# Altium footprint library COOLCONTROL.PcbLib: 95 footprints (part 1 of 6)
Each footprint in its own frame and in the unit in brackets; x right, y up, seen from the top. Pads: shape width x height; smd on the part's side, far side on the other; paste and mask are expansions set on the pad; w line width, h text height; cw(c..) or ccw(c..) is an arc to the next point about the centre after c.
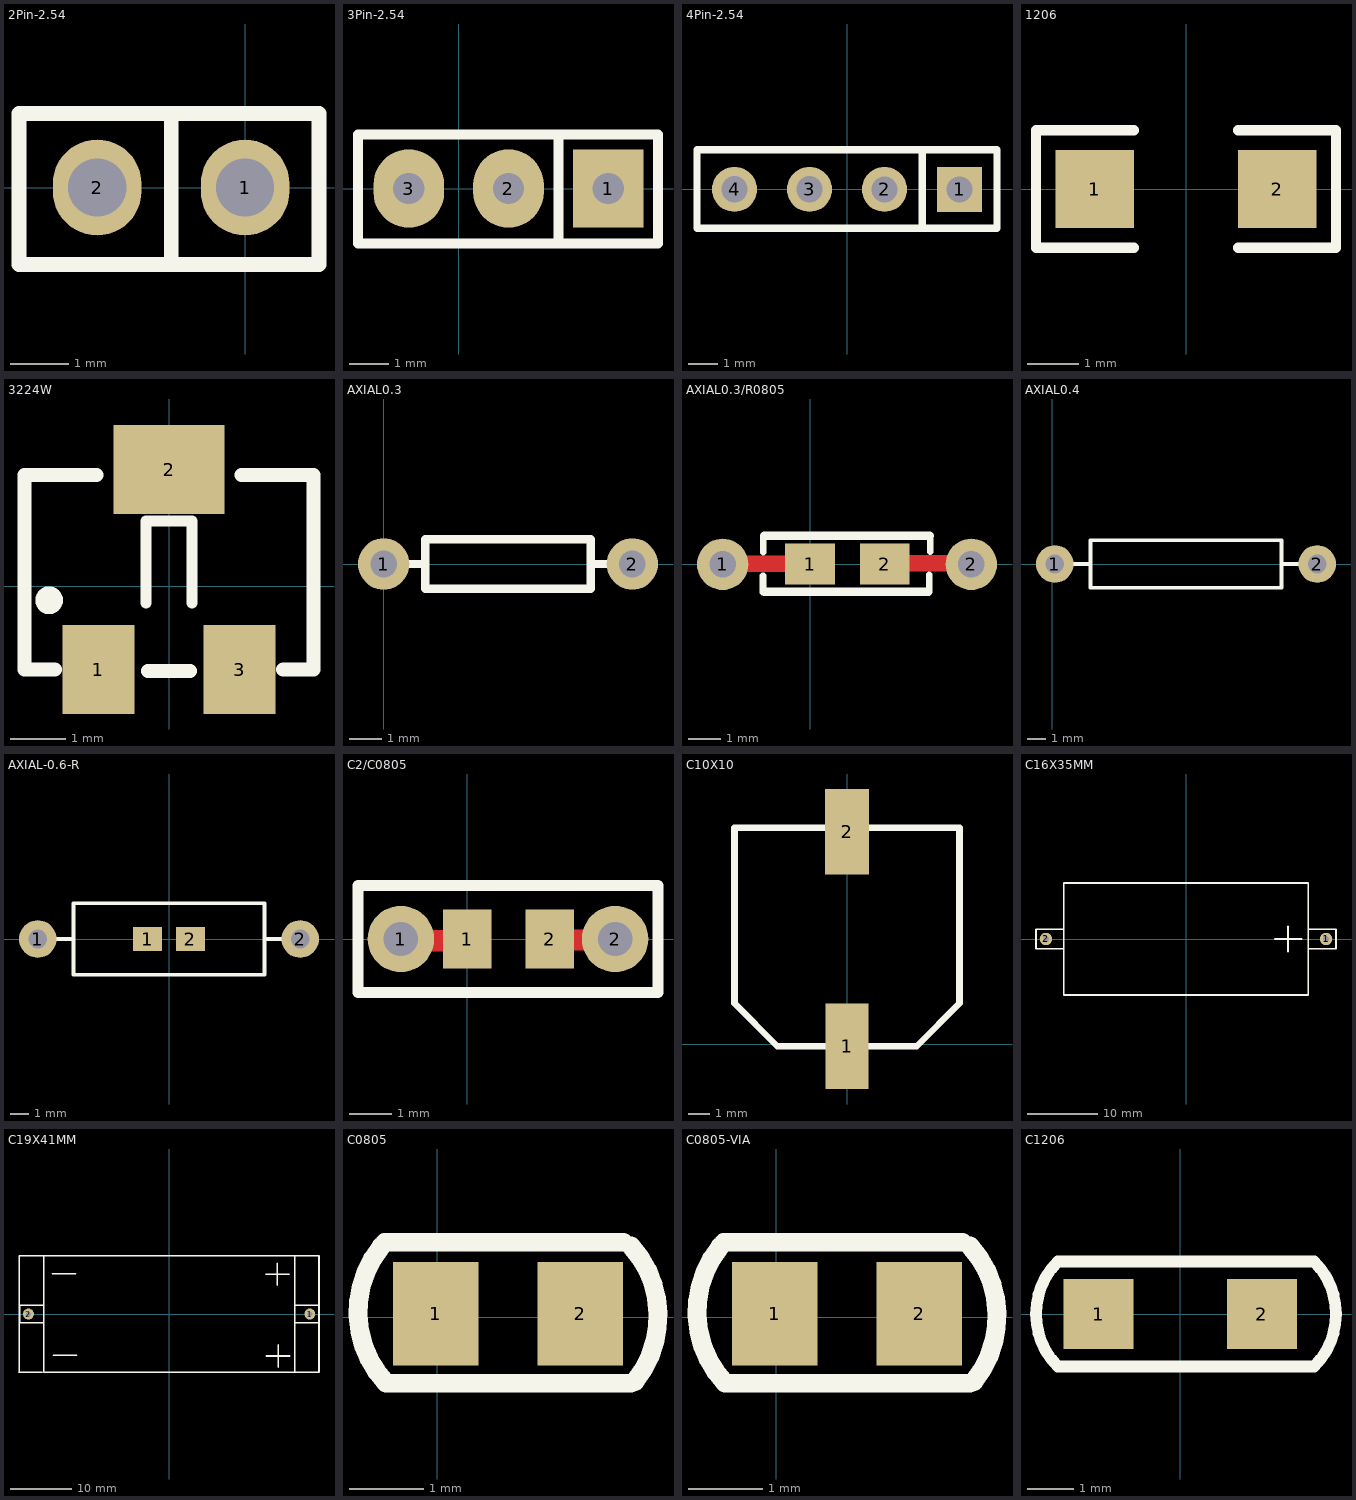
[diagram p0: the footprints below, top view; thin cyan lines are the x and y axes]

## 2Pin-2.54 [mil]
pads (2):
  oval 60x65 hole 39.37: 1(0,0) 2(-100.1,0)
Top Overlay:
  lines w10: -50,-47 -50,50 ; -153,-52 50,-52 50,50 -153,50 -153,-52
3D body "1001-2.STEP": height 336.22, standoff -118.11, extent -153,-51 47,49

## 3Pin-2.54 [mm]
pads (3):
  rect 1.8x2 hole 0.8: 1(3.81,0)
  oval 1.8x2 hole 0.8: 2(1.27,0) 3(-1.27,0)
Top Overlay:
  lines w0.254: 2.54,-1.372 2.54,1.321 ; -2.565,-1.397 -2.565,1.372 5.08,1.372 5.08,-1.397 -2.565,-1.397
3D body "1001-3.STEP": height 8.54, standoff -3, extent -2.54,-1.321 5.08,1.219

## 4Pin-2.54 [mil]
pads (4):
  rect 60x60 hole 35: 1(150,0)
  round 60 hole 35: 2(50,0) 3(-50,0) 4(-150,0)
Top Overlay:
  lines w10: 100,-52 100,53 ; -200,-52 -200,53 200,53 200,-52 -200,-52
3D body "1001-4.STEP": height 336.22, standoff -118.11, extent -199.72,-49.88 200.28,50.12

## 1206 [mil]
pads (2):
  rect 60x60 smd: 1(-70,0) 2(70,0)
Top Overlay:
  lines w7.87: -40,-45 -115,-45 -115,45 -40,45 ; 40,-45 115,-45 115,45 40,45

## 3224W [mm]
pads (3):
  rect 1.3x1.6 smd: 1(-1.27,-1.5) 3(1.27,-1.5)
  rect 2x1.6 smd: 2(0,2.1)
Top Overlay:
  circle w0.25: c-2.157,-0.254 r0.125
  lines w0.2: -0.411,-0.3 -0.411,1.175 0.039,1.175 ; -0.039,1.175 0.411,1.175 0.411,-0.3
  lines w0.254: -2.056,-1.5 -2.6,-1.5 -2.6,2 -1.302,2 ; -0.381,-1.524 0.381,-1.524 ; 1.302,2 2.6,2 2.6,-1.5 2.056,-1.5

## AXIAL0.3 [mil]
pads (2):
  round 62 hole 32: 1(0,0) 2(300,0)
Top Overlay:
  lines w10: 0,0 50,0 ; 300,0 250,0 ; 250,0 250,-30 50,-30 50,30 250,30 250,0

## AXIAL0.3/R0805 [mil]
pads (4):
  round 62 hole 32: 1(-105.39,-0.43) 2(194.61,-0.43)
  rect 60x50 smd: 1(0,0) 2(90,0)
Top Layer:
  lines w20: -79.45,0.2 -1.57,0.2 ; 81,1 183,1
Top Overlay:
  lines w1.97: 30,-30 35,-35 40,-30 45,-35 50,-30 55,-35 60,-30 ; 30,30 35,35 40,30 45,35 50,30 55,35 60,30
  lines w8: -56.77,-34.17 -56.77,-14 ; -56.61,14 -56.61,33.54 ; -39.19,-34.16 25,-34.16 ; -39.19,34.09 25,34.09 ; 65,-34.08 129.13,-34.08 ; 65,34.12 129.13,34.12 ; 143.82,-33.35 143.82,-13 ; 145.12,15 145.12,34.65
  lines w10: -55.39,-33.35 142.91,-33.35 ; -55.39,34.02 144.61,34.02

## AXIAL0.4 [mm]
pads (2):
  round 2 hole 1: 1(0.127,0) 2(14.097,0)
Top Overlay:
  lines w0.2: 0.508,0 2.032,0 ; 12.192,0 13.716,0 ; 2.032,-1.27 12.192,-1.27 12.192,1.27 2.032,1.27 2.032,-1.27

## AXIAL-0.6-R [mm] "1W"
height 2.54
pads (4):
  round 2 hole 1: 1(-6.985,0) 2(6.985,0)
  rect 1.524x1.27 smd: 1(-1.143,0) 2(1.143,0)
Top Overlay:
  lines w0.2: -6.604,0 -5.08,0 ; 5.08,0 6.604,0 ; -5.08,-1.905 5.08,-1.905 5.08,1.905 -5.08,1.905 -5.08,-1.905

## C2/C0805 [mil]
pads (4):
  round 62 hole 32: 1(-61.91,0.2) 2(138.09,0.2)
  rect 45.37x55.12 smd: 1(0,0) 2(77,0)
Top Layer:
  lines w20: -35.61,-1.45 -0.77,-1.45 ; 77.65,-0.7 111.08,-0.7
Top Overlay:
  lines w10: -101.91,-49.8 -101.91,50.2 178.09,50.2 178.09,-49.8 -101.91,-49.8

## C10X10 [mm]
pads (2):
  rect 2x4 smd: 1(0,-0.1)
  rect 2.032x4 smd: 2(0,9.9)
Top Overlay:
  lines w0.305: -5.25,1.9 -3.25,-0.1 3.25,-0.1 5.25,1.9 5.25,10.1 -5.25,10.1 -5.25,1.9

## C16X35MM [mil]
pads (2):
  round 70 hole 32: 1(788.98,0.01) 2(-788.98,0.01)
Top Overlay:
  lines w10: -690,-54.99 -845,-54.99 -845,55.01 -690,55.01 ; 500,0.01 650,0.01 ; 575,-70.86 575,70.88 ; 695,-54.99 845,-54.99 845,55.01 695,55.01 ; -688.98,-314.95 688.98,-314.95 688.98,314.97 -688.98,314.97 -688.98,-314.95

## C19X41MM [mil]
pads (2):
  round 70 hole 32: 1(903.98,0) 2(-903.98,0)
Top Overlay:
  lines w10: -965,-374.99 -815,-374.99 ; -962.09,-374.02 -962.09,374.02 ; -960,375.01 -810,375.01 ; -805,-54.99 -960,-54.99 -960,55.01 -805,55.01 ; -750,260 -600,260 ; -745,-265 -595,-265 ; 620,255 770,255 ; 625,-270 775,-270 ; 695,184.14 695,325.88 ; 700,-340.86 700,-199.12 ; 810,-374.99 960,-374.99 ; 810,-54.99 960,-54.99 960,55.01 810,55.01 ; 810,375.01 960,375.01 ; 962.91,-374.02 962.91,374.02 ; -807.09,-374.02 807.09,-374.02 807.09,374.02 -807.09,374.02 -807.09,-374.02

## C0805 [mil]
pads (2):
  rect 45.37x55.12 smd: 1(-1,2) 2(76,2)
Top Overlay:
  lines w5: 55,38 102.97,38
  lines w10: -30,37.68 ccw(c13.27,2.85) -27.39,-35 102.97,-35 ; -28,40 99,40 ; 102.97,38 cw(c61.73,0.79) 105,-34.04

## C0805-VIA [mil]
pads (2):
  rect 45.37x55.12 smd: 1(-1,2) 2(76,2)
Top Overlay:
  lines w5: 55,38 102.97,38
  lines w10: -30,37.68 ccw(c13.27,2.85) -27.39,-35 102.97,-35 ; -28,40 99,40 ; 102.97,38 cw(c61.73,0.79) 105,-34.04

## C1206 [mil]
pads (2):
  rect 60x60 smd: 1(-70,0.01) 2(70,0.01)
Top Overlay:
  lines w10: -45,-44.99 115,-44.99 ccw(c70,0.01) 115,45.01 40,45.01 ; -40,-44.99 -105,-44.99 cw(c-60,0.01) -105,45.01 45,45.01